# EAGLE library part LINEAR,LOG_AMP,#1 (library QuantumOptics)
Log Amp with diff in, ref and dual opamps, such as LOG114.
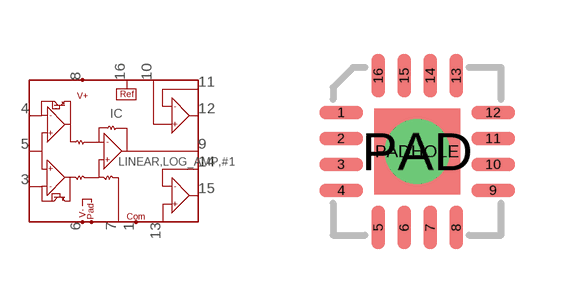
[diagram p153: symbol with the pads of QFN16#2; footprint QFN16#2]

Designator prefix IC

## LINEAR,LOG_AMP,#1-PVQFN16  [QFN16#2]
1  COM-REF  pwr
3  I2  in
4  I1  in
5  IN_COM  in
6  V-  pwr
7  COM-R
8  V+  pwr
9  LOG-OUT  out
10  A+  in
11  A-  in
12  A-OUT  out
13  B+  in
14  B-  in
15  B-OUT  out
16  REF  out
PAD  PAD  pwr
PADHOLE  PAD  pwr

## Footprint QFN16#2 (pad centres in mm)
QFN-16, AKA PVQFN-N16, from TI's LOG114, package RGV.
smd 1.1 x 0.35: 1 -1.9,0.975; 2 -1.9,0.325; 3 -1.9,-0.325; 4 -1.9,-0.975; 9 1.9,-0.975; 10 1.9,-0.325; 11 1.9,0.325; 12 1.9,0.975
smd 0.35 x 1.1: 5 -0.975,-1.9; 6 -0.325,-1.9; 7 0.325,-1.9; 8 0.975,-1.9; 13 0.975,1.9; 14 0.325,1.9; 15 -0.325,1.9; 16 -0.975,1.9
smd 2.16 x 2.16: PAD 0,0
drill 1.079: PADHOLE 0,0